# Altium footprint library Connectors.PcbLib: 18 footprints (part 2 of 2)
Each footprint in its own frame and in the unit in brackets; x right, y up, seen from the top. Pads: shape width x height; smd on the part's side, far side on the other; paste and mask are expansions set on the pad; w line width, h text height; cw(c..) or ccw(c..) is an arc to the next point about the centre after c.
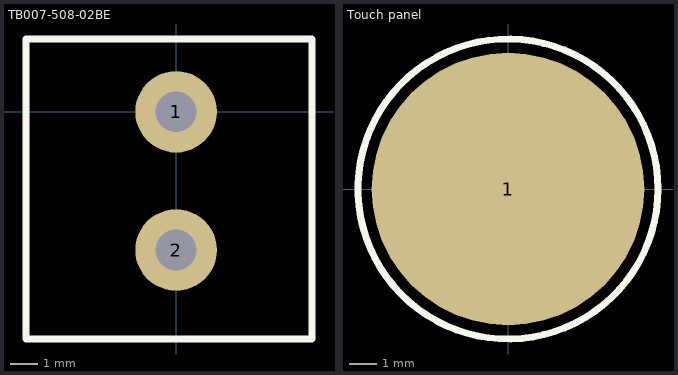
[diagram p1: the footprints below, top view; thin cyan lines are the x and y axes]

## TB007-508-02BE [mm]
pads (2):
  round 3 hole 1.5: 1(0,0) 2(0,-5.08)
Top Overlay:
  lines w0.254: -5.525,-8.35 -5.525,2.675 5,2.675 5,-8.35 -5.525,-8.35
3D body "CUI_DEVICES_TB007-508-02BE.step": height 14, standoff -3.7, extent -5.375,-8.185 4.875,2.575

## Touch panel [mm]
pads (1):
  round 10 smd paste+0: 1(0,0)
Top Overlay:
  circle w0.254: c0,0 r5.5
  circle w0.254: c0,0 r4.5
  circle w0.254: c0,0 r3.5
  text "Touch" at -2.625,-0.75 h1